# EAGLE library part SDRAM64MB (library lbm)
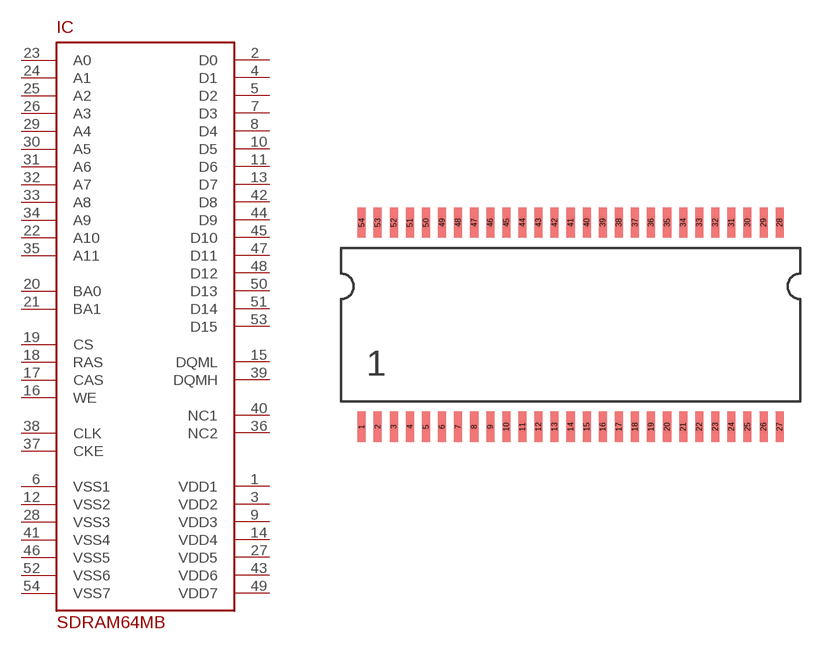
[diagram p23: symbol with the pads of TSOP54; footprint TSOP54]

Designator prefix IC

## SDRAM64MB  [TSOP54]
1  VDD1
2  D0
3  VDD2
4  D1
5  D2
6  VSS1
7  D3
8  D4
9  VDD3
10  D5
11  D6
12  VSS2
13  D7
14  VDD4
15  DQML
16  WE
17  CAS
18  RAS
19  CS
20  BA0
21  BA1
22  A10
23  A0
24  A1
25  A2
26  A3
27  VDD5
28  VSS3
29  A4
30  A5
31  A6
32  A7
33  A8
34  A9
35  A11
36  NC2
37  CKE
38  CLK
39  DQMH
40  NC1
41  VSS4
42  D8
43  VDD6
44  D9
45  D10
46  VSS5
47  D11
48  D12
49  VDD7
50  D13
51  D14
52  VSS6
53  D15
54  VSS7

## Footprint TSOP54 (pad centres in mm)
smd 0.4 x 1.5: 1 -10.4,-5.08; 2 -9.6,-5.08; 3 -8.8,-5.08; 4 -8,-5.08; 5 -7.2,-5.08; 6 -6.4,-5.08; 7 -5.6,-5.08; 8 -4.8,-5.08; 9 -4,-5.08; 10 -3.2,-5.08; 11 -2.4,-5.08; 12 -1.6,-5.08; 13 -0.8,-5.08; 14 0,-5.08; 15 0.8,-5.08; 16 1.6,-5.08; 17 2.4,-5.08; 18 3.2,-5.08; 19 4,-5.08; 20 4.8,-5.08; 21 5.6,-5.08; 22 6.4,-5.08; 23 7.2,-5.08; 24 8,-5.08; 25 8.8,-5.08; 26 9.6,-5.08; 27 10.4,-5.08; 28 10.4,5.08; 29 9.6,5.08; 30 8.8,5.08; 31 8,5.08; 32 7.2,5.08; 33 6.4,5.08; 34 5.6,5.08; 35 4.8,5.08; 36 4,5.08; 37 3.2,5.08; 38 2.4,5.08; 39 1.6,5.08; 40 0.8,5.08; 41 0,5.08; 42 -0.8,5.08; 43 -1.6,5.08; 44 -2.4,5.08; 45 -3.2,5.08; 46 -4,5.08; 47 -4.8,5.08; 48 -5.6,5.08; 49 -6.4,5.08; 50 -7.2,5.08; 51 -8,5.08; 52 -8.8,5.08; 53 -9.6,5.08; 54 -10.4,5.08